# EAGLE library part CMLT5087E (library transistor-neu-to92)
DUAL PNP/PNP L87 TRANSISTORS ENHANCED SPECIFICATION PICOmini(TM) SURFACE MOUNT Source: CMLT5078%20SERIES.pdf
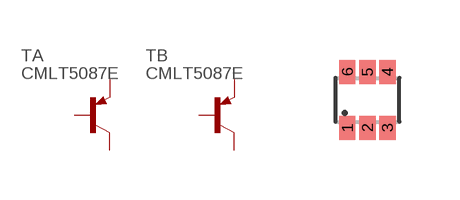
[diagram p2: symbol with the pads of SOT563; footprint SOT563]

Designator prefix T; gates A=PNP B=PNP

## CMLT5087E  [SOT563]
1  A:E  pas
2  A:B  pas
3  B:C  pas
4  B:E  pas
5  B:B  pas
6  A:C  pas

## Footprint SOT563 (pad centres in mm)
SOT-563 Source: www.centralsemi.com ..SOT-563PD.pdf
smd 0.4 x 0.6: 1 -0.5,-0.7; 2 0,-0.7; 3 0.5,-0.7; 4 0.5,0.7; 5 0,0.7; 6 -0.5,0.7